# Altium schematic symbol library AlpLogo.SchLib: 2 symbols
Pins are listed as number, name and electrical type; pins without a type are passive.

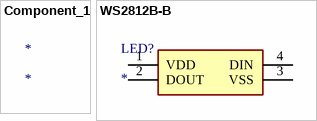
[diagram p0: symbols Component_1 to WS2812B-B]

## Component_1
designator *

## WS2812B-B
designator LED?
LED; Manufacturer_Name: Worldsemi; Manufacturer_Part_Number: WS2812B-B; Description: Light Emitting Diodes (LED) RGB 620~630nm Red; Datasheet Link: http://www.world-semi.com/DownLoadFile/111; Height: 1.62mm
footprint WS2812BB
pins: 1 VDD, 2 DOUT, 3 VSS, 4 DIN